# Altium footprint library PCB.PcbLib: 8 footprints
Each footprint in its own frame and in the unit in brackets; x right, y up, seen from the top. Pads: shape width x height; smd on the part's side, far side on the other; paste and mask are expansions set on the pad; w line width, h text height; cw(c..) or ccw(c..) is an arc to the next point about the centre after c.
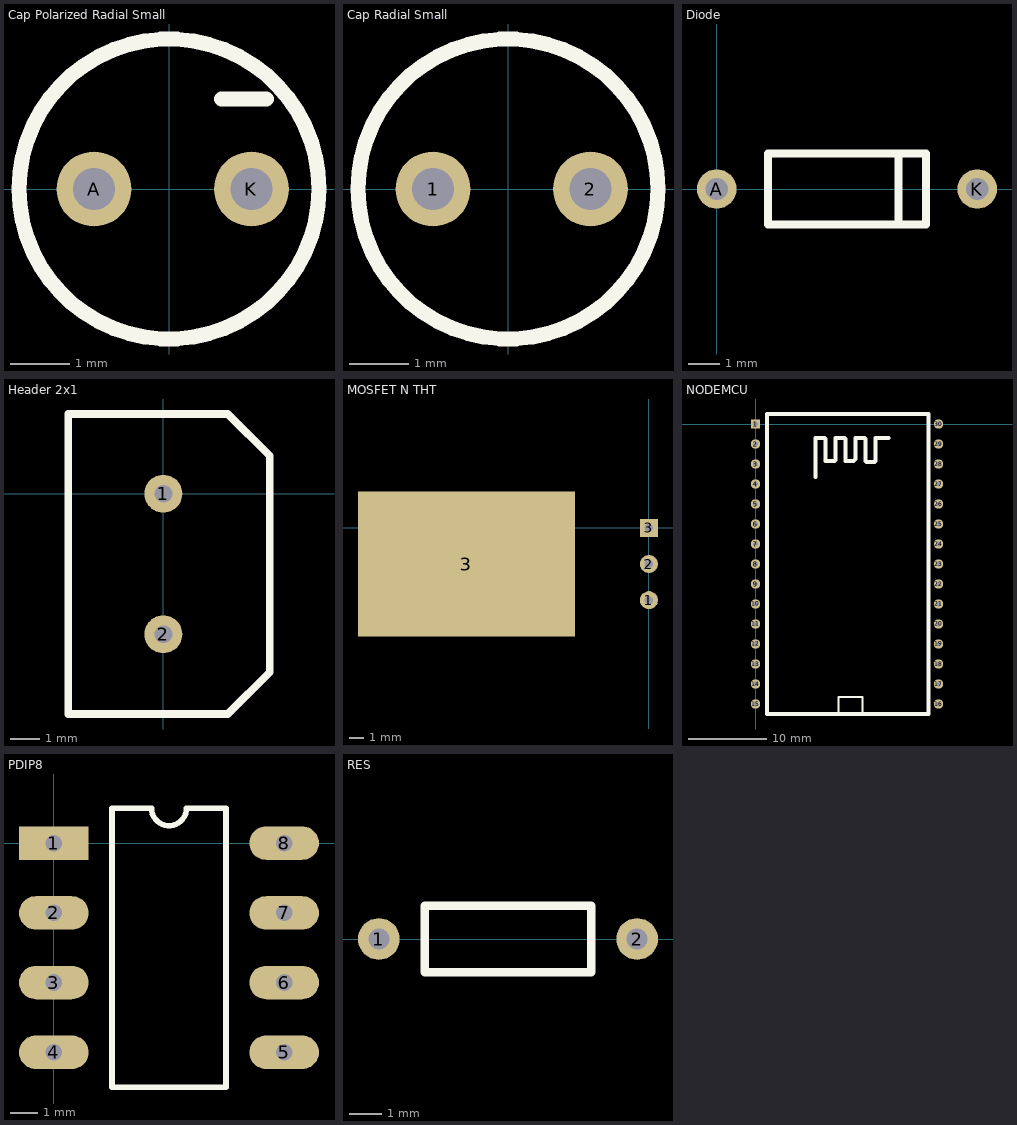
[diagram p0: the footprints below, top view; thin cyan lines are the x and y axes]

## Cap Polarized Radial Small [mil]
pads (2):
  round 50 hole 28: A(-50,0) K(55,0)
Top Overlay:
  circle w10: c0,0 r100
  lines w10: 35,60 65,60

## Cap Radial Small [mil]
pads (2):
  round 50 hole 28: 1(-50,0) 2(55,0)
Top Overlay:
  circle w10: c0,0 r100

## Diode [mil]
pads (2):
  round 50 hole 28: A(0,0) K(330,0)
Top Overlay:
  lines w10: 230,-45 230,45 ; 65,-45 65,0 65,45 265,45 265,-45 65,-45

## Header 2x1 [mm]
pads (2):
  round 1.27 hole 0.6: 1(0,0) 2(0,-4.699)
Top Overlay:
  lines w0.254: -3.175,-7.366 2.159,-7.366 3.556,-5.969 3.556,1.27 2.159,2.667 -3.175,2.667 -3.175,-7.366

## MOSFET N THT [mm]
pads (4):
  round 1.27 hole 0.6: 1(0,-5.08) 2(0,-2.54)
  rect 15.24x10.16 smd: 3(-12.827,-2.54)
  rect 1.27x1.27 hole 0.6: 3(0,0)

## NODEMCU [mm]
pads (30):
  rect 1.2x1.2 hole 0.6: 1(0,0)
  round 1.2 hole 0.6: 2(0,-2.54) 3(0,-5.08) 4(0,-7.62) 5(0,-10.16) 6(0,-12.7) 7(0,-15.24) 8(0,-17.78) 9(0,-20.32) 10(0,-22.86) 11(0,-25.4) 12(0,-27.94) 13(0,-30.48) 14(0,-33.02) 15(0,-35.56) 16(23.241,-35.56) 17(23.241,-33.02) 18(23.241,-30.48) 19(23.241,-27.94) 20(23.241,-25.4) 21(23.241,-22.86) 22(23.241,-20.32) 23(23.241,-17.78) 24(23.241,-15.24) 25(23.241,-12.7) 26(23.241,-10.16) 27(23.241,-7.62) 28(23.241,-5.08) 29(23.241,-2.54) 30(23.241,0)
Top Overlay:
  lines w0.254: 10.541,-36.703 10.541,-34.671 13.589,-34.671 13.589,-36.703
  lines w0.508: 7.62,-6.731 7.62,-1.778 8.763,-1.778 8.89,-1.905 8.89,-4.699 10.033,-4.699 10.16,-4.572 10.16,-1.778 11.303,-1.778 11.43,-1.905 11.43,-4.699 12.446,-4.699 12.7,-4.445 12.7,-1.778 13.843,-1.778 13.97,-1.905 13.97,-4.699 14.097,-4.826 15.113,-4.826 15.24,-4.699 15.24,-1.778 16.891,-1.778 ; 1.435,-36.83 21.971,-36.83 21.971,1.27 1.435,1.27 1.435,-36.83

## PDIP8 [mm]
pads (8):
  rect 2.5x1.2 hole 0.6: 1(0,0)
  oval 2.5x1.2 hole 0.6: 2(0,-2.5) 3(0,-5) 4(0,-7.5) 5(8.26,-7.5) 6(8.26,-5) 7(8.26,-2.5) 8(8.26,0)
Top Overlay:
  lines w0.2: 2.085,-8.75 2.085,1.25 3.505,1.25 ccw(c4.13,1.25) 4.755,1.25 6.175,1.25 6.175,-8.75 2.085,-8.75

## RES [mil]
pads (2):
  round 50 hole 25: 1(145,0) 2(455,0)
Top Overlay:
  lines w10: 200,-40 200,0 200,40 400,40 400,-40 200,-40